# Altium schematic symbol library CON 17X2_Ribbon.SchLib: 1 symbol
Pins are listed as number, name and electrical type; pins without a type are passive.

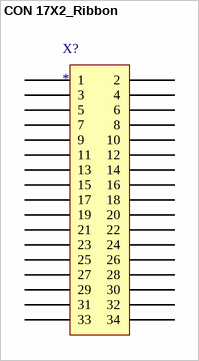
[diagram p0: symbol CON 17X2_Ribbon]

## CON 17X2_Ribbon
designator X?
34 Pin Ribbon Connector
footprint CON 17X2_Ribbon (34 Pin Ribbon Connector)
pins: 1, 2, 3, 4, 5, 6, 7, 8, 9, 10, 11, 12, 13, 14, 15, 16, 17, 18, 19, 20, 21, 22, 23, 24, 25, 26, 27, 28, 29, 30, 31, 32, 33, 34